# Altium footprint library cardio_pcb.PcbLib: 25 footprints (part 1 of 2)
Each footprint in its own frame and in the unit in brackets; x right, y up, seen from the top. Pads: shape width x height; smd on the part's side, far side on the other; paste and mask are expansions set on the pad; w line width, h text height; cw(c..) or ccw(c..) is an arc to the next point about the centre after c.
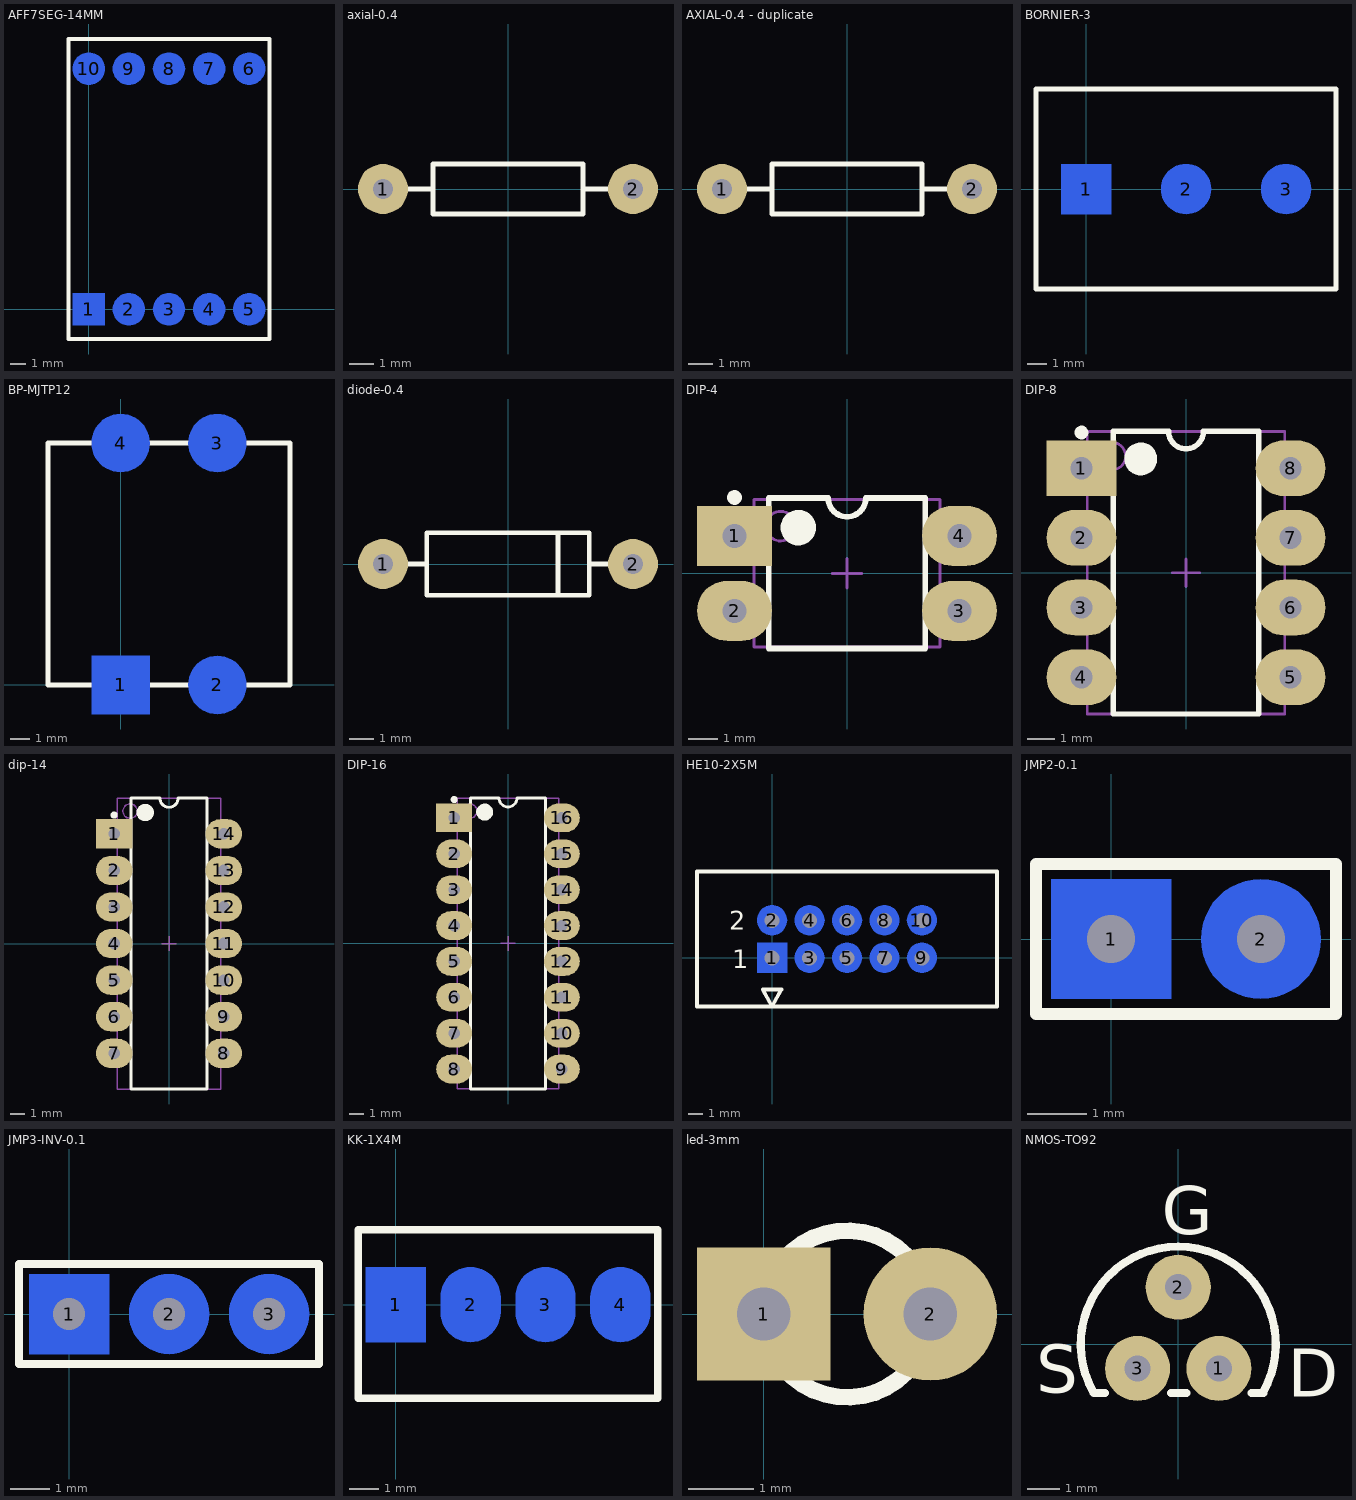
[diagram p0: the footprints below, top view; thin cyan lines are the x and y axes]

## AFF7SEG-14MM [mil] "Aff 7 seg (14mm) footprint"
pads (10):
  rect 80x80 smd far side: 1(0,0)
  round 80 smd far side: 2(100,0) 3(200,0) 4(300,0) 5(400,0) 6(400,600) 7(300,600) 8(200,600) 9(100,600) 10(0,600)
Top Layer:
  circle w20: c0,600 r26
  circle w20: c100,600 r26
  circle w20: c200,600 r26
  circle w20: c300,600 r26
  circle w20: c400,600 r26
  circle w20: c400,0 r26
  circle w20: c300,0 r26
  circle w20: c200,0 r26
  circle w20: c100,0 r26
  circle w20: c0,0 r26
Top Overlay:
  lines w10: -50,-74 450,-74 450,674 -50,674 -50,-74

## axial-0.4 [mil] "Axial Device, Thru-Hole; 2 Leads; 0.4 in Pin Spacing"
height 80
pads (2):
  round 80 hole 32: 1(-200,0) 2(200,0)
Top Overlay:
  lines w7.87: -160,0 -120,0 ; 120,0 160,0 ; -120,-40 -120,40 120,40 120,-40 -120,-40

## AXIAL-0.4 - duplicate [mil]
pads (2):
  round 80 hole 32: 1(-200,0) 2(200,0)
Top Overlay:
  lines w7.87: -160,0 -120,0 ; 120,0 160,0 ; -120,-40 -120,40 120,40 120,-40 -120,-40

## BORNIER-3 [mil] "BORNIER-3 footprint"
pads (3):
  rect 100x100 smd far side: 1(0,0)
  round 100 smd far side: 2(200,0) 3(400,0)
Top Layer:
  circle w20: c0,0 r26
  circle w20: c200,0 r26
  circle w20: c400,0 r26
Top Overlay:
  lines w10: -100,-200 -100,200 500,200 500,-200 -100,-200

## BP-MJTP12 [mil] "BP footprint"
pads (4):
  rect 120x120 smd far side: 1(0,0)
  round 120 smd far side: 2(200,0) 3(200,500) 4(0,500)
Top Layer:
  circle w20: c0,500 r26
  circle w20: c200,500 r26
  circle w20: c200,0 r26
  circle w20: c0,0 r26
Top Overlay:
  lines w10: -150,0 350,0 350,500 -150,500 -150,0

## diode-0.4 [mil] "Diode, Thru-Hole; 2 Leads; 0.4 in Pin Spacing"
height 100
pads (2):
  round 80 hole 32: 1(-200,0) 2(200,0)
Top Overlay:
  lines w7.87: -160,0 -130,0 ; 80,-50 80,50 ; 130,0 160,0 ; -130,-50 130,-50 130,50 -130,50 -130,-50

## DIP-4 [mil] "DIP; 4 Leads; Row Spacing 7.62 mm; Pitch 2.54 mm"
height 220.47
pads (4):
  rect 100x80 hole 32: 1(-150,50)
  oval 100x80 hole 32: 2(-150,-50) 3(150,-50) 4(150,50)
Top Overlay:
  circle w9.84: c-150,101.18 r4.92
  circle w23.62: c-64.96,61.02 r11.81
  lines w7.87: -104.33,-100.39 -104.33,100.39 -25,100.39 ccw(c0,100.39) 25,100.39 104.33,100.39 104.33,-100.39 -104.33,-100.39
Mechanical 13:
  circle w3.94: c-88.58,62.99 r19.68
  lines w3.94: -124.02,-98.43 -124.02,98.43 124.02,98.43 124.02,-98.43 -124.02,-98.43
Mechanical 15:
  lines w3.94: -19.68,0 19.68,0 ; 0,-19.68 0,19.68
3D body: height 220.47, standoff 0, extent -124.02,-98.43 124.02,98.43

## DIP-8 [mil] "DIP; 8 Leads; Row Spacing 7.62 mm; Pitch 2.54 mm"
height 200
pads (8):
  rect 100x80 hole 32: 1(-150,150)
  oval 100x80 hole 32: 2(-150,50) 3(-150,-50) 4(-150,-150) 5(150,-150) 6(150,-50) 7(150,50) 8(150,150)
Top Overlay:
  circle w23.62: c-64.96,163.39 r11.81
  circle w9.84: c-150,201.18 r4.92
  lines w7.87: -104.33,-202.76 104.33,-202.76 104.33,202.76 25,202.76 cw(c0,202.76) -25,202.76 -104.33,202.76 -104.33,-202.76
Mechanical 13:
  circle w3.94: c-106.3,167.32 r19.68
  lines w3.94: -141.73,-202.76 141.73,-202.76 141.73,202.76 -141.73,202.76 -141.73,-202.76
Mechanical 15:
  lines w3.94: -19.68,0 19.68,0 ; 0,-19.68 0,19.68
3D body: height 200, standoff 0, extent -141.73,-202.76 141.73,202.76

## dip-14 [mil] "DIP; 14 Leads; Row Spacing 7.62 mm; Pitch 2.54 mm"
height 200
pads (14):
  rect 100x80 hole 32: 1(-150,300)
  oval 100x80 hole 32: 2(-150,200) 3(-150,100) 4(-150,0) 5(-150,-100) 6(-150,-200) 7(-150,-300) 8(150,-300) 9(150,-200) 10(150,-100) 11(150,0) 12(150,100) 13(150,200) 14(150,300)
Top Overlay:
  circle w23.62: c-64.96,358.27 r11.81
  circle w9.84: c-150,351.18 r4.92
  lines w7.87: -104.33,-397.64 104.33,-397.64 104.33,397.64 25,397.64 cw(c0,397.64) -25,397.64 -104.33,397.64 -104.33,-397.64
Mechanical 13:
  circle w3.94: c-106.3,362.2 r19.68
  lines w3.94: -141.73,-397.64 141.73,-397.64 141.73,397.64 -141.73,397.64 -141.73,-397.64
Mechanical 15:
  lines w3.94: -19.68,0 19.68,0 ; 0,-19.68 0,19.68
3D body: height 200, standoff 0, extent -141.73,-397.64 141.73,397.64

## DIP-16 [mil] "DIP; 16 Leads; Row Spacing 7.62 mm; Pitch 2.54 mm"
height 200
pads (16):
  rect 100x80 hole 32: 1(-150,350)
  oval 100x80 hole 32: 2(-150,250) 3(-150,150) 4(-150,50) 5(-150,-50) 6(-150,-150) 7(-150,-250) 8(-150,-350) 9(150,-350) 10(150,-250) 11(150,-150) 12(150,-50) 13(150,50) 14(150,150) 15(150,250) 16(150,350)
Top Overlay:
  circle w9.84: c-150,401.18 r4.92
  circle w23.62: c-64.96,366.14 r11.81
  lines w7.87: -104.33,-405.51 -104.33,405.51 -25,405.51 ccw(c0,405.51) 25,405.51 104.33,405.51 104.33,-405.51 -104.33,-405.51
Mechanical 13:
  circle w3.94: c-106.3,369.09 r19.68
  lines w3.94: -141.73,-404.53 -141.73,404.53 141.73,404.53 141.73,-404.53 -141.73,-404.53
Mechanical 15:
  lines w3.94: -19.68,0 19.68,0 ; 0,-19.68 0,19.68
3D body: height 200, standoff 0, extent -141.73,-404.53 141.73,404.53

## HE10-2X5M [mil] "CONNECTOR HE10 2X5 MALE"
height 350
pads (10):
  rect 80x80 on Bottom hole 40: 1(0,0)
  round 80 on Bottom hole 40: 2(0,100) 3(100,0) 4(100,100) 5(200,0) 6(200,100) 7(300,0) 8(300,100) 9(400,0) 10(400,100)
Top Layer:
  circle w20: c0,0 r26
  circle w20: c100,0 r26
  circle w20: c200,0 r26
  circle w20: c300,0 r26
  circle w20: c400,0 r26
  circle w20: c400,100 r26
  circle w20: c300,100 r26
  circle w20: c200,100 r26
  circle w20: c100,100 r26
  circle w20: c0,100 r26
Top Overlay:
  lines w10: -200,-130 600,-130 600,230 -200,230 -200,-130 ; -25,-85 0,-130 25,-85 -25,-85
  text "1" at -106.3,-27.56 h50
  text "2" at -114.17,74.8 h50

## JMP2-0.1 [mil] "CAVALIER 3cts HE14 PAS 2.54MM"
height 200
pads (2):
  rect 80x80 on Bottom hole 32: 1(0,0)
  round 80 on Bottom hole 32: 2(100,0)
Top Layer:
  circle w20: c0,0 r26
  circle w20: c100,0 r26
Top Overlay:
  lines w7.87: -50,-50 -50,50 150,50 150,-50 -50,-50

## JMP3-INV-0.1 [mil] "CAVALIER 3cts HE14 PAS 2.54MM"
height 200
pads (3):
  rect 80x80 on Bottom hole 32: 1(0,0)
  round 80 on Bottom hole 32: 2(100,0) 3(200,0)
Top Layer:
  circle w20: c0,0 r26
  circle w20: c100,0 r26
  circle w20: c200,0 r26
Top Overlay:
  lines w7.87: -50,-50 -50,50 250,50 250,-50 -50,-50

## KK-1X4M [mil]
pads (4):
  rect 80x100 smd far side: 1(0,0)
  oval 80x100 smd far side: 2(100,0) 3(200,0) 4(300,0)
Top Layer:
  circle w20: c0,0 r26
  circle w20: c100,0 r26
  circle w20: c200,0 r26
  circle w20: c300,0 r26
Top Overlay:
  lines w10: -50,-125 -50,100 350,100 350,-125 -50,-125

## led-3mm [mil] "Led footprint"
pads (2):
  rect 80x80 hole 32: 1(0,0)
  round 80 hole 32: 2(100,0)
Top Overlay:
  circle w10: c50,0 r50

## NMOS-TO92 [mil] "NMOS TO92"
height 400
pads (3):
  round 80 hole 32: 1(50,-30) 2(0,70) 3(-50,-30)
Top Overlay:
  lines w10: -104.19,-59.54 cw(c0,0) 104.19,-59.54 ; -104,-60 -90,-60 ; -9,-60 10,-60 ; 90,-60 105,-60
  text "S" at -175,-60 h59.05
  text "G" at -20,135 h59.05
  text "D" at 135,-65 h59.05